# Altium schematic symbol library SSD1963.SchLib: 1 symbol
Pins are listed as number, name and electrical type; pins without a type are passive.

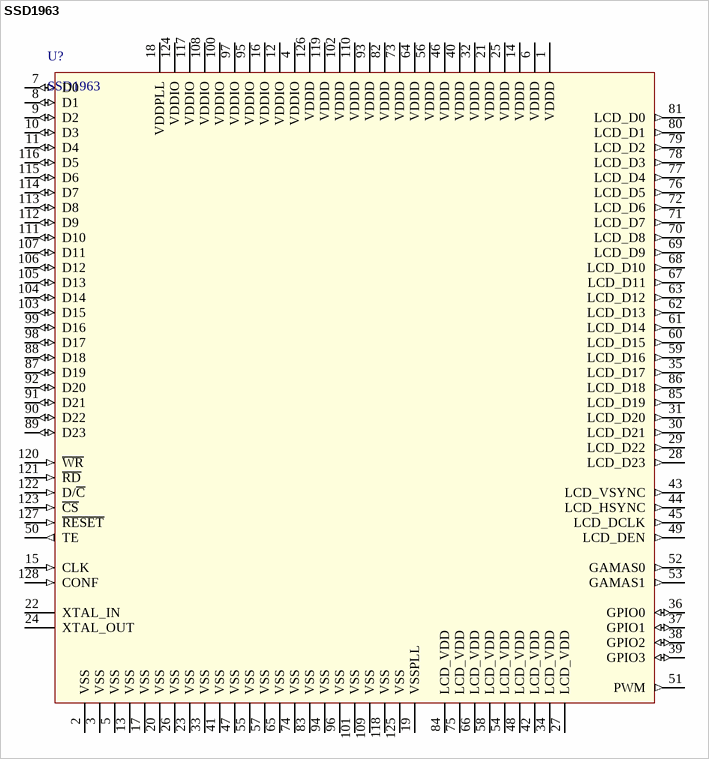
[diagram p0: symbol SSD1963]

## SSD1963
designator U?
STM32 ARM-based 32-bit MCU with 64 Kbytes Flash, 100-pin LQFP, Industrial Temperature
pins: 1 VDDD (power), 2 VSS (power), 3 VSS (power), 4 VDDIO (power), 5 VSS (power), 6 VDDD (power), 7 D0 (io), 8 D1 (io), 9 D2 (io), 10 D3 (io), 11 D4 (io), 12 VDDIO (power), 13 VSS (power), 14 VDDD (power), 15 CLK (in), 16 VDDIO (power), 17 VSS (power), 18 VDDPLL (power), 19 VSSPLL (power), 20 VSS (power), 21 VDDD (power), 22 XTAL_IN, 23 VSS (power), 24 XTAL_OUT, 25 VDDD (power), 26 VSS (power), 27 LCD_VDD (power), 28 LCD_D23 (out), 29 LCD_D22 (out), 30 LCD_D21 (out), 31 LCD_D20 (out), 32 VDDD (power), 33 VSS (power), 34 LCD_VDD (power), 35 LCD_D17 (out), 36 GPIO0 (io), 37 GPIO1 (io), 38 GPIO2 (io), 39 GPIO3 (io), 40 VDDD (power), 41 VSS (power), 42 LCD_VDD (power), 43 LCD_VSYNC (out), 44 LCD_HSYNC (out), 45 LCD_DCLK (out), 46 VDDD (power), 47 VSS (power), 48 LCD_VDD (power), 49 LCD_DEN (out), 50 TE (out), 51 PWM (out), 52 GAMAS0 (out), 53 GAMAS1 (out), 54 LCD_VDD (power), 55 VSS (power), 56 VDDD (power), 57 VSS (power), 58 LCD_VDD (power), 59 LCD_D16 (out), 60 LCD_D15 (out), 61 LCD_D14 (out), 62 LCD_D13 (out), 63 LCD_D12 (out), 64 VDDD (power), 65 VSS (power), 66 LCD_VDD (power), 67 LCD_D11 (out), 68 LCD_D10 (out), 69 LCD_D9 (out), 70 LCD_D8 (out), 71 LCD_D7 (out), 72 LCD_D6 (out), 73 VDDD (power), 74 VSS (power), 75 LCD_VDD (power), 76 LCD_D5 (out), 77 LCD_D4 (out), 78 LCD_D3 (out), 79 LCD_D2 (out), 80 LCD_D1 (out), 81 LCD_D0 (out), 82 VDDD (power), 83 VSS (power), 84 LCD_VDD (power), 85 LCD_D19 (out), 86 LCD_D18 (out), 87 D19 (io), 88 D18 (io), 89 D23 (io), 90 D22 (io), 91 D21 (io), 92 D20 (io), 93 VDDD (power), 94 VSS (power), 95 VDDIO (power), 96 VSS (power), 97 VDDIO (power), 98 D17 (io), 99 D16 (io), 100 VDDIO (power), 101 VSS (power), 102 VDDD (power), 103 D15 (io), 104 D14 (io), 105 D13 (io), 106 D12 (io), 107 D11 (io), 108 VDDIO (power), 109 VSS (power), 110 VDDD (power), 111 D10 (io), 112 D9 (io), 113 D8 (io), 114 D7 (io), 115 D6 (io), 116 D5 (io), 117 VDDIO (power), 118 VSS (power), 119 VDDD (power), 120 ~{WR} (in), 121 ~{RD} (in), 122 D/~{C} (in), 123 ~{CS} (in), 124 VDDIO (power), 125 VSS (power), 126 VDDD (power), 127 ~{RESET} (in), 128 CONF (in)